# Altium footprint library DXPpcb.PCBLIB: 575 footprints (part 14 of 36)
Each footprint in its own frame and in the unit in brackets; x right, y up, seen from the top. Pads: shape width x height; smd on the part's side, far side on the other; paste and mask are expansions set on the pad; w line width, h text height; cw(c..) or ccw(c..) is an arc to the next point about the centre after c.
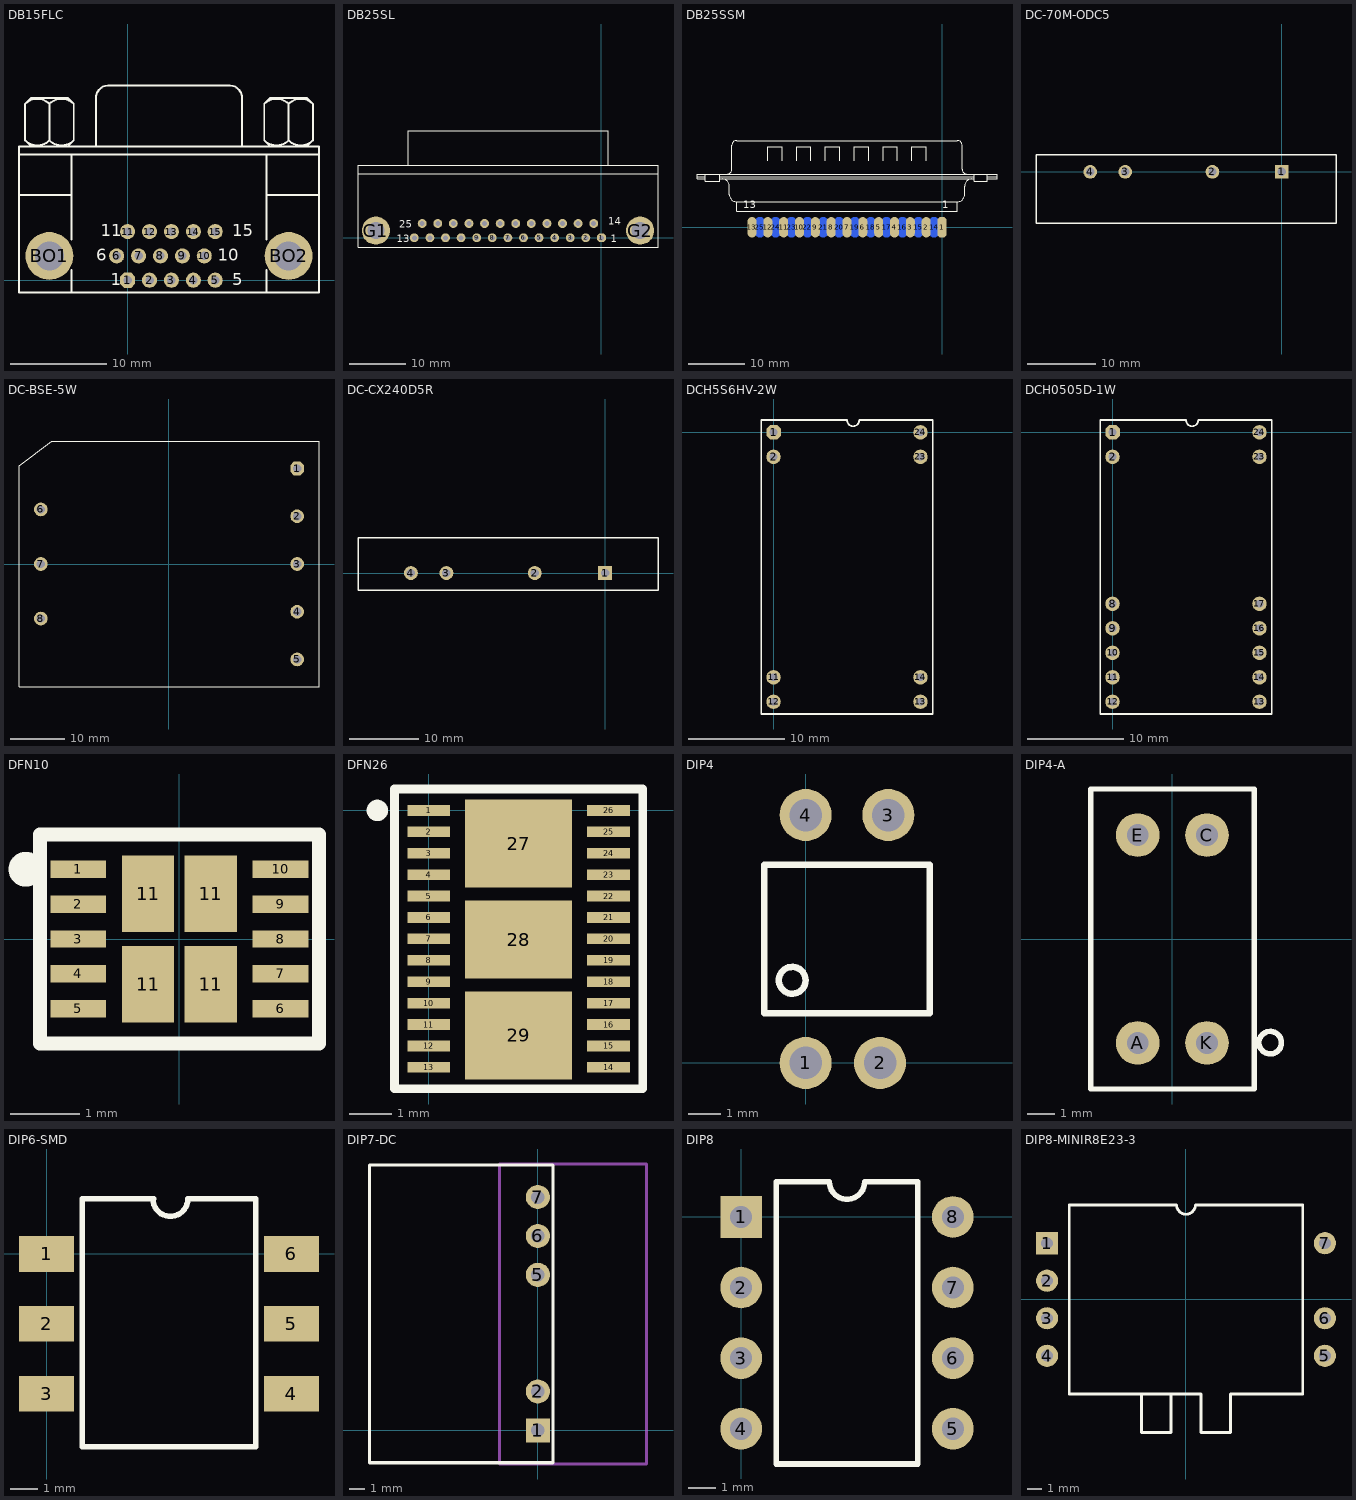
[diagram p13: the footprints below, top view; thin cyan lines are the x and y axes]

## DB15FLC [mil]
pads (17):
  oct 62x62 hole 35: 1(0,0)
  round 62 hole 35: 2(90,0) 3(180,0) 4(270,0) 5(360,0) 6(-45,100) 7(45,100) 8(135,100) 9(225,100) 10(315,100) 11(0,200) 12(90,200) 13(180,200) 14(270,200) 15(360,200)
  round 196.67 hole 118.33: BO1(-321.67,100) BO2(661.67,100)
TopOverlay:
  lines w8: -446.67,350 -230,350 ; -446.67,516.67 786.67,516.67 ; -421.75,574.91 ccw(c-371.67,625) -321.58,574.91 ; -421.75,725.09 cw(c-371.67,675) -321.58,725.09 ; -396.67,550 -421.67,575 -421.67,725 -396.67,750 -246.67,750 -221.67,725 -221.67,575 -246.67,550 ; -321.75,574.91 ccw(c-271.67,625) -221.58,574.91 ; -321.75,725.09 cw(c-271.67,675) -221.58,725.09 ; -321.67,575 -321.67,725 ; -230,-50 -230,41.67 ; -230,166.67 -230,350 ; -230,516.67 -230,350 ; -130,550 -130,750 cw(c-80,750) -80,800 420,800 cw(c420,750) 470,750 470,550 ; 561.58,574.91 ccw(c611.67,625) 661.75,574.91 ; 561.58,725.09 cw(c611.67,675) 661.75,725.09 ; 570,-50 570,41.67 ; 570,166.67 570,350 ; 570,516.67 570,350 ; 586.67,550 561.67,575 561.67,725 586.67,750 736.67,750 761.67,725 761.67,575 736.67,550 ; 661.58,574.91 ccw(c711.67,625) 761.75,574.91 ; 661.58,725.09 cw(c711.67,675) 761.75,725.09 ; 661.67,575 661.67,725 ; 786.67,350 570,350 ; -446.67,-50 -446.67,550 786.67,550 786.67,-50 -446.67,-50
  text "5" at 430,-20 h50
  text "10" at 370,80 h50
  text "15" at 430,180 h50
  text "11" at -110,180 h50
  text "6" at -130,80 h50
  text "1" at -70,-20 h50

## DB25SL [mil]
pads (27):
  oct 62x62 hole 35: 1(0,0)
  round 62 hole 35: 2(-109.17,0) 3(-218.33,0) 4(-327.5,0) 5(-436.67,0) 6(-545.83,0) 7(-655,0) 8(-764.17,0) 9(-873.33,0) 10(-982.5,0) 11(-1091.67,0) 12(-1200.83,0) 13(-1310,0) 14(-54.17,100) 15(-163.33,100) 16(-272.5,100) 17(-381.67,100) 18(-490.83,100) 19(-600,100) 20(-709.17,100) 21(-818.33,100) 22(-927.5,100) 23(-1036.67,100) 24(-1145.83,100) 25(-1255,100)
  round 196.67 hole 118.33: G1(-1579.17,50) G2(270.83,50)
TopOverlay:
  lines w8: -1704.17,450 395.83,450 ; -1354.17,508.33 -1354.17,750 45.83,750 45.83,508.33 ; -1704.17,-66.67 -1704.17,508.33 395.83,508.33 395.83,-66.67 -1704.17,-66.67
  text "14" at 45.83,90 h50
  text "1" at 65.83,-30 h50
  text "13" at -1434.17,-30 h50
  text "25" at -1414.17,70 h50

## DB25SSM [mil]
pads (25):
  oct 62.5x141.67 smd: 1(0.16,-0.4)
  oval 62.5x141.67 smd: 2(-109.84,-0.4) 3(-219.84,-0.4) 4(-329.84,-0.4) 5(-439.84,-0.4) 6(-549.84,-0.4) 7(-659.84,-0.4) 8(-769.84,-0.4) 9(-879.84,-0.4) 10(-989.84,-0.4) 11(-1099.84,-0.4) 12(-1209.84,-0.4) 13(-1319.84,-0.4)
  oval 62.5x141.67 smd far side: 14(-54.84,-0.4) 15(-164.84,-0.4) 16(-274.84,-0.4) 17(-384.84,-0.4) 18(-494.84,-0.4) 19(-604.84,-0.4) 20(-714.84,-0.4) 21(-824.84,-0.4) 22(-934.84,-0.4) 23(-1044.84,-0.4) 24(-1154.84,-0.4) 25(-1264.84,-0.4)
TopOverlay:
  lines w8: -1701.5,351.26 -1643.17,351.26 ; -1643.17,334.6 -1701.5,334.6 -1701.5,367.93 381.83,367.93 381.83,334.6 315.16,334.6 ; -1643.17,367.93 -1643.17,317.93 -1543.17,317.93 -1543.17,367.93 ; -1543.17,334.6 223.5,334.6 ; -1543.17,351.26 223.5,351.26 ; -1526.5,334.6 cw(c-1526.5,284.6) -1476.5,284.6 -1476.5,226.26 ccw(c-1426.5,226.26) -1426.5,176.26 ; -1493.17,367.93 ccw(c-1493.17,401.26) -1459.84,401.26 -1459.84,567.93 cw(c-1426.5,567.93) -1426.5,601.26 106.83,601.26 cw(c106.83,567.93) 140.16,567.93 140.16,401.26 ccw(c173.5,401.26) 173.5,367.93 ; -1209.84,459.6 -1209.84,559.6 -1109.84,559.6 -1109.84,459.6 ; -1009.84,459.6 -1009.84,559.6 -909.84,559.6 -909.84,459.6 ; -809.84,459.6 -809.84,559.6 -709.84,559.6 -709.84,459.6 ; -609.84,459.6 -609.84,559.6 -509.84,559.6 -509.84,459.6 ; -409.84,459.6 -409.84,559.6 -309.84,559.6 -309.84,459.6 ; -209.84,459.6 -209.84,559.6 -109.84,559.6 -109.84,459.6 ; 206.83,334.6 ccw(c206.83,284.6) 156.83,284.6 156.83,226.26 cw(c106.83,226.26) 106.83,176.26 ; 223.5,367.93 223.5,317.93 315.16,317.93 315.16,367.93 ; 315.16,351.26 381.83,351.26 ; -1426.5,176.26 -1426.5,109.6 106.83,109.6 106.83,176.26 ; -1426.5,176.26 106.83,176.26
  text "13" at -1379.84,129.6 h50
  text "1" at 0.16,129.6 h50

## DC-70M-ODC5 [mm]
pads (4):
  rect 2x2 hole 1.2: 1(0,0)
  round 2 hole 1.2: 2(-10.1,0) 3(-22.8,0) 4(-27.9,0)
TopOverlay:
  lines w0.2: -35.8,-7.5 7.9,-7.5 7.9,2.5 -35.8,2.5 -35.8,-7.5

## DC-BSE-5W [mm]
pads (8):
  oct 2.5x2.5 hole 1.5: 1(23.5,17.5)
  round 2.5 hole 1.5: 2(23.5,8.75) 3(23.5,0) 4(23.5,-8.75) 5(23.5,-17.5) 6(-23.5,10) 7(-23.5,0) 8(-23.5,-10)
TopOverlay:
  lines w0.2: -27.5,-22.5 -27.5,18 -21.5,22.5 27.5,22.5 27.5,-22.5 -27.5,-22.5

## DC-CX240D5R [mm]
pads (4):
  rect 2x2 hole 1.2: 1(0,0)
  round 2 hole 1.2: 2(-10.1,0) 3(-22.8,0) 4(-27.9,0)
TopOverlay:
  lines w0.2: -35.5,-2.5 -35.5,5.1 7.6,5.1 7.6,-2.5 -35.5,-2.5

## DCH5S6HV-2W [mm]
pads (8):
  oct 1.5x1.5 hole 0.8: 1(0,0)
  round 1.5 hole 0.8: 2(0,-2.54) 11(0,-25.4) 12(0,-27.94) 13(15.24,-27.94) 14(15.24,-25.4) 23(15.24,-2.54) 24(15.24,0)
TopOverlay:
  lines w0.2: -1.27,-29.21 16.51,-29.21 16.51,1.27 8.89,1.27 cw(c8.255,1.27) 7.62,1.27 -1.27,1.27 -1.27,-29.21

## DCH0505D-1W [mm]
pads (14):
  oct 1.5x1.5 hole 0.8: 1(0,0)
  round 1.5 hole 0.8: 2(0,-2.54) 8(0,-17.78) 9(0,-20.32) 10(0,-22.86) 11(0,-25.4) 12(0,-27.94) 13(15.24,-27.94) 14(15.24,-25.4) 15(15.24,-22.86) 16(15.24,-20.32) 17(15.24,-17.78) 23(15.24,-2.54) 24(15.24,0)
TopOverlay:
  lines w0.2: -1.27,-29.21 16.51,-29.21 16.51,1.27 8.89,1.27 cw(c8.255,1.27) 7.62,1.27 -1.27,1.27 -1.27,-29.21

## DFN10 [mm]
pads (14):
  rect 0.8x0.25 smd: 1(-1.45,1) 2(-1.45,0.5) 3(-1.45,0) 4(-1.45,-0.5) 5(-1.45,-1) 6(1.45,-1) 7(1.45,-0.5) 8(1.45,0) 9(1.45,0.5) 10(1.45,1)
  rect 0.75x1.1 smd: 11(-0.45,-0.65) 11(-0.45,0.65) 11(0.45,-0.65) 11(0.45,0.65)
TopOverlay:
  circle w0.3: c-2.2,1 r0.1
  lines w0.2: -2,-1.5 -2,1.5 2,1.5 2,-1.5 -2,-1.5

## DFN26 [mm]
pads (29):
  rect 1x0.25 smd: 1(0,0) 2(0,-0.5) 3(0,-1) 4(0,-1.5) 5(0,-2) 6(0,-2.5) 7(0,-3) 8(0,-3.5) 9(0,-4) 10(0,-4.5) 11(0,-5) 12(0,-5.5) 13(0,-6) 14(4.2,-6) 15(4.2,-5.5) 16(4.2,-5) 17(4.2,-4.5) 18(4.2,-4) 19(4.2,-3.5) 20(4.2,-3) 21(4.2,-2.5) 22(4.2,-2) 23(4.2,-1.5) 24(4.2,-1) 25(4.2,-0.5) 26(4.2,0)
  rect 2.5x2.05 smd: 27(2.1,-0.775) 29(2.1,-5.255)
  rect 2.5x1.83 smd: 28(2.1,-3.015)
TopOverlay:
  circle w0.3: c-1.2,0 r0.1
  lines w0.2: -0.8,-6.5 5,-6.5 5,0.5 -0.8,0.5 -0.8,-6.5

## DIP4 [mm]
pads (4):
  round 1.6 hole 1: 1(0,0) 2(2.286,0) 3(2.54,7.62) 4(0,7.62)
TopOverlay:
  circle w0.2: c-0.412,2.54 r0.412
  lines w0.2: -1.27,1.524 3.81,1.524 3.81,6.096 -1.27,6.096 -1.27,1.524

## DIP4-A [mm]
pads (4):
  round 1.6 hole 0.8: A(-1.27,-3.81) C(1.27,3.81) E(-1.27,3.81) K(1.27,-3.81)
TopOverlay:
  circle w0.2: c3.588,-3.8 r0.412
  lines w0.2: -3,-5.5 3,-5.5 3,5.5 -3,5.5 -3,-5.5

## DIP6-SMD [mm]
pads (6):
  rect 2x1.3 smd: 1(0,0) 2(0,-2.54) 3(0,-5.08) 4(8.9,-5.08) 5(8.9,-2.54) 6(8.9,0)
TopOverlay:
  lines w0.2: 3.865,2 ccw(c4.5,2) 5.135,2 7.6,2 7.6,-7 1.3,-7 1.3,2 3.9,2

## DIP7-DC [mil]
pads (5):
  rect 62x62 hole 35: 1(0,0)
  round 62 hole 35: 2(0,100) 5(0,400) 6(0,500) 7(0,600)
TopOverlay:
  lines w7.87: -433.07,-83.46 -433.07,682.68 39.37,682.68 39.37,-83.46 -433.07,-83.46
Mechanical3:
  lines w7.87: -98.43,-86.61 279.53,-86.61 279.53,685.04 -98.43,685.04 -98.43,-86.61

## DIP8 [mm]
pads (8):
  rect 1.5x1.5 hole 0.8: 1(0,0)
  round 1.5 hole 0.8: 2(0,-2.54) 3(0,-5.08) 4(0,-7.62) 5(7.62,-7.62) 6(7.62,-5.08) 7(7.62,-2.54) 8(7.62,0)
TopOverlay:
  lines w0.2: 1.27,-8.89 1.27,1.27 3.175,1.27 ccw(c3.81,1.27) 4.445,1.27 6.35,1.27 6.35,-8.89 1.27,-8.89

## DIP8-MINIR8E23-3 [mm]
pads (7):
  rect 1.5x1.5 hole 0.8: 1(-9.4,3.81)
  round 1.5 hole 0.8: 2(-9.4,1.27) 3(-9.4,-1.27) 4(-9.4,-3.81) 5(9.4,-3.81) 6(9.4,-1.27) 7(9.4,3.81)
TopOverlay:
  lines w0.2: -3,-6.4 -3,-9 -1,-9 -1,-6.4 ; -7.9,-6.4 1,-6.4 1,-9 3,-9 3,-6.4 7.9,-6.4 7.9,6.4 0.635,6.4 cw(c0,6.4) -0.635,6.4 -7.9,6.4 -7.9,-6.4